# Altium schematic symbol library GeekAmmo.SCHLIB: 1 symbol
Pins are listed as number, name and electrical type; pins without a type are passive.

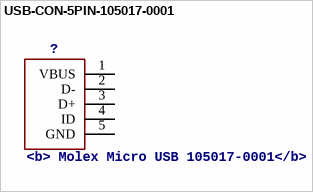
[diagram p0: symbol USB-CON-5PIN-105017-0001]

## USB-CON-5PIN-105017-0001
designator ?, comment <b> Molex Micro USB 105017-0001</b>
footprint USB-MICRO-MOLEX-105017-0001
pins: 1 VBUS (power), 2 D-, 3 D+, 4 ID, 5 GND (power)